# Altium footprint library 排针.PcbLib: 1 footprints
Each footprint in its own frame and in the unit in brackets; x right, y up, seen from the top. Pads: shape width x height; smd on the part's side, far side on the other; paste and mask are expansions set on the pad; w line width, h text height; cw(c..) or ccw(c..) is an arc to the next point about the centre after c.
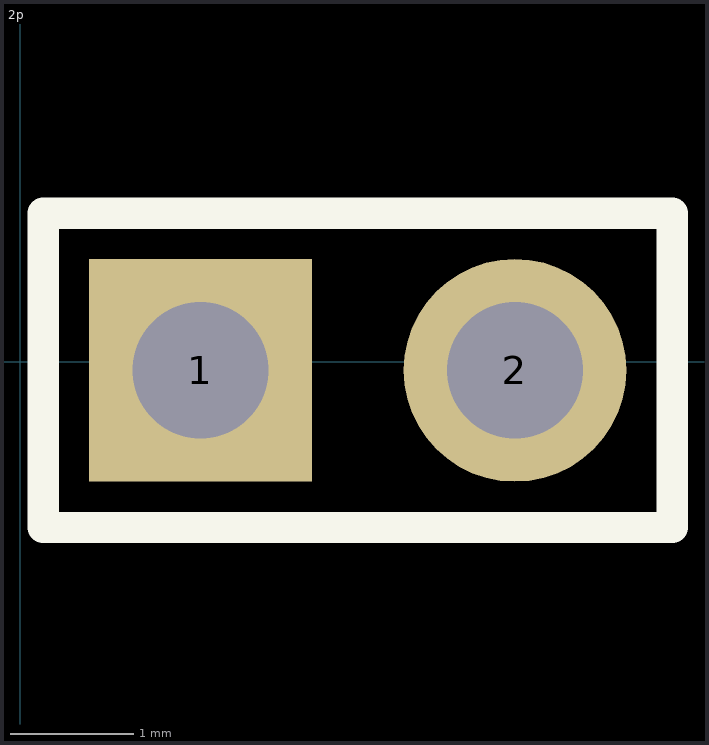
[diagram p0: the footprint, top view; thin cyan lines are the x and y axes]

## 2p [mm]
pads (2):
  rect 1.8x1.8 hole 1.1: 1(1.457,-0.067)
  round 1.8 hole 1.1: 2(3.997,-0.067)
Top Overlay:
  lines w0.254: 0.187,-1.337 0.187,1.203 5.267,1.203 5.267,-1.337 0.187,-1.337
Mechanical 15:
  region: 3.677,0.253 4.317,0.253 4.317,-0.387 3.677,-0.387
  region: 1.137,0.253 1.777,0.253 1.777,-0.387 1.137,-0.387
  region: 0.247,-1.337 0.247,-1.362 0.212,-1.397 0.162,-1.397 0.127,-1.362 0.127,-1.337 0.127,-1.312 0.162,-1.277 0.212,-1.277 0.247,-1.312 0.247,-1.337
  lines w0.051: 0.187,-1.337 5.267,-1.337 5.267,1.203 0.187,1.203 0.187,-1.337